# Altium footprint library PCB - CRYSTALS - Abracon AOCJY2.PCBLIB: 1 footprints
Each footprint in its own frame and in the unit in brackets; x right, y up, seen from the top. Pads: shape width x height; smd on the part's side, far side on the other; paste and mask are expansions set on the pad; w line width, h text height; cw(c..) or ccw(c..) is an arc to the next point about the centre after c.
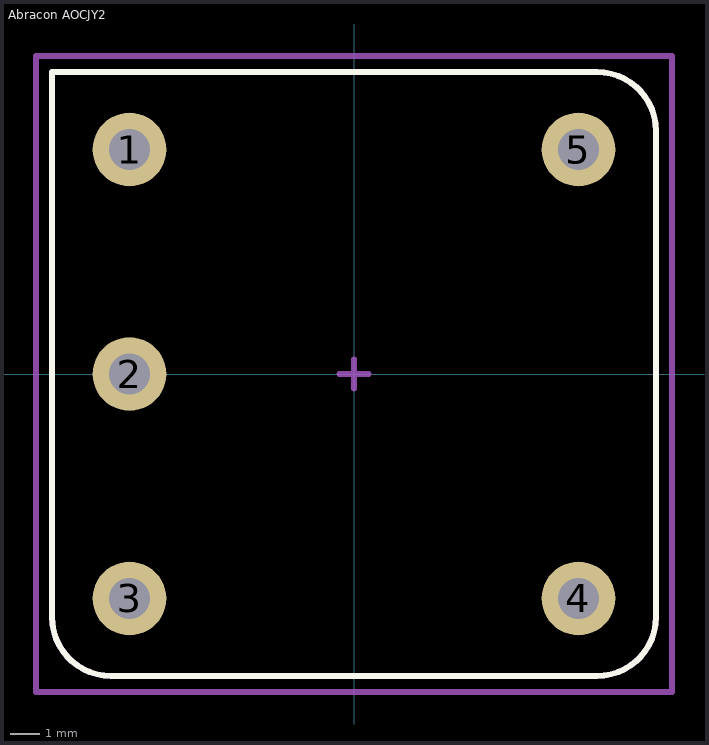
[diagram p0: the footprint, top view; thin cyan lines are the x and y axes]

## Abracon AOCJY2 [mm] "Oven Controlled Crystal Oscillator"
height 18.8
pads (5):
  round 2.5 hole 1.4 paste-2539.97: 1(-7.62,7.62) 2(-7.62,0) 3(-7.62,-7.62) 4(7.62,-7.62) 5(7.62,7.62)
Top Overlay:
  lines w0.2: -10.25,-8.25 ccw(c-8.25,-8.25) -8.25,-10.25 8.25,-10.25 ccw(c8.25,-8.25) 10.25,-8.25 10.25,8.25 ccw(c8.25,8.25) 8.25,10.25 -10.25,10.25 -10.25,-8.25
Top Component Center:
  lines w0.2: -0.5,0 0.5,0 ; 0,-0.5 0,0.5
Top Component Outline:
  lines w0.2: -10.25,-8.25 ccw(c-8.25,-8.25) -8.25,-10.25 8.25,-10.25 ccw(c8.25,-8.25) 10.25,-8.25 10.25,8.25 ccw(c8.25,8.25) 8.25,10.25 -10.25,10.25 -10.25,-8.25
Top Courtyard (Mech15):
  lines w0.2: -10.8,-10.8 10.8,-10.8 10.8,10.8 -10.8,10.8 -10.8,-10.8
3D body "Abracon AOCJY2.step": height 11.5, standoff -4, extent -10.25,-10.25 10.25,10.25